# EAGLE library part TEXAS_INSTRUMENTS-IO_EXPANDER-TCA6424ARGJR (library Module_ICs)
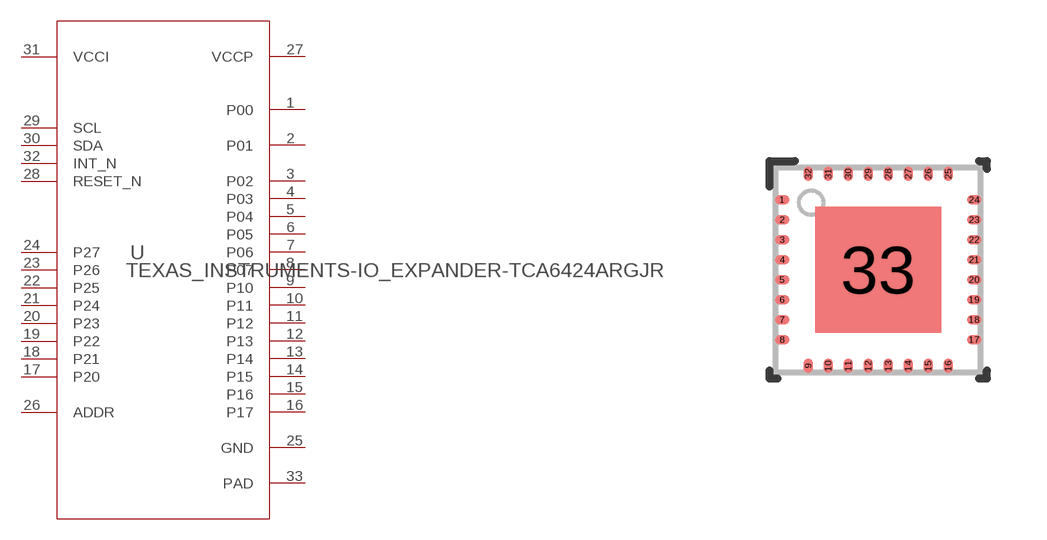
[diagram p0: symbol with the pads of TEXAS_INSTRUMENTS-IO_EXPANDER-TCA6424ARGJR; footprint TEXAS_INSTRUMENTS-IO_EXPANDER-TCA6424ARGJR]

Designator prefix U

## TEXAS_INSTRUMENTS-IO_EXPANDER-TCA6424ARGJR (COMPTYPE: IC; MANUFACTURER: Texas Instruments; MOUNTTYPE: SMT; PACKAGEREFERENCE: RGJ0032A; PARTNUMBER: TCA6424ARGJR; PIN_COUNT: 33; REFDES: RefDes; ROHS: Y; TYPE: TYPE; VALUE: Value)  [TEXAS_INSTRUMENTS-IO_EXPANDER-TCA6424ARGJR]
1  P00
2  P01
3  P02
4  P03
5  P04
6  P05
7  P06
8  P07
9  P10
10  P11
11  P12
12  P13
13  P14
14  P15
15  P16
16  P17
17  P20
18  P21
19  P22
20  P23
21  P24
22  P25
23  P26
24  P27
25  GND  pwr
26  ADDR  in
27  VCCP  pwr
28  RESET_N  in
29  SCL  in
30  SDA
31  VCCI  pwr
32  INT_N  out
33  PAD  pwr

## Footprint TEXAS_INSTRUMENTS-IO_EXPANDER-TCA6424ARGJR (pad centres in mm)
smd 0.36 x 0.24: 1 -2.4,1.75; 2 -2.4,1.25; 3 -2.4,0.75; 4 -2.4,0.25; 5 -2.4,-0.25; 6 -2.4,-0.75; 7 -2.4,-1.25; 8 -2.4,-1.75; 17 2.4,-1.75; 18 2.4,-1.25; 19 2.4,-0.75; 20 2.4,-0.25; 21 2.4,0.25; 22 2.4,0.75; 23 2.4,1.25; 24 2.4,1.75
smd 0.24 x 0.36: 9 -1.75,-2.4; 10 -1.25,-2.4; 11 -0.75,-2.4; 12 -0.25,-2.4; 13 0.25,-2.4; 14 0.75,-2.4; 15 1.25,-2.4; 16 1.75,-2.4; 25 1.75,2.4; 26 1.25,2.4; 27 0.75,2.4; 28 0.25,2.4; 29 -0.25,2.4; 30 -0.75,2.4; 31 -1.25,2.4; 32 -1.75,2.4
smd 3.15 x 3.15: 33 0,0